# Altium schematic symbol library SCH - POWER - LINEAR VREG - TI TPS7A3725DRV.SchLib: 1 symbol
Pins are listed as number, name and electrical type; pins without a type are passive.

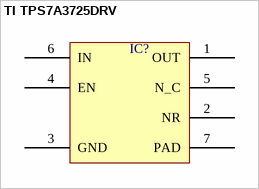
[diagram p0: symbol TI TPS7A3725DRV]

## TI TPS7A3725DRV
designator IC?  (value not drawn)
pins: 1 OUT, 2 NR, 3 GND, 4 EN, 5 N_C, 6 IN, 7 PAD